# Altium schematic symbol library SCH - MCU - STM32 - ST MICROELECTRONICS STM32F407I(E-G)TX LQFP176.SchLib: 1 symbol
Pins are listed as number, name and electrical type; pins without a type are passive.

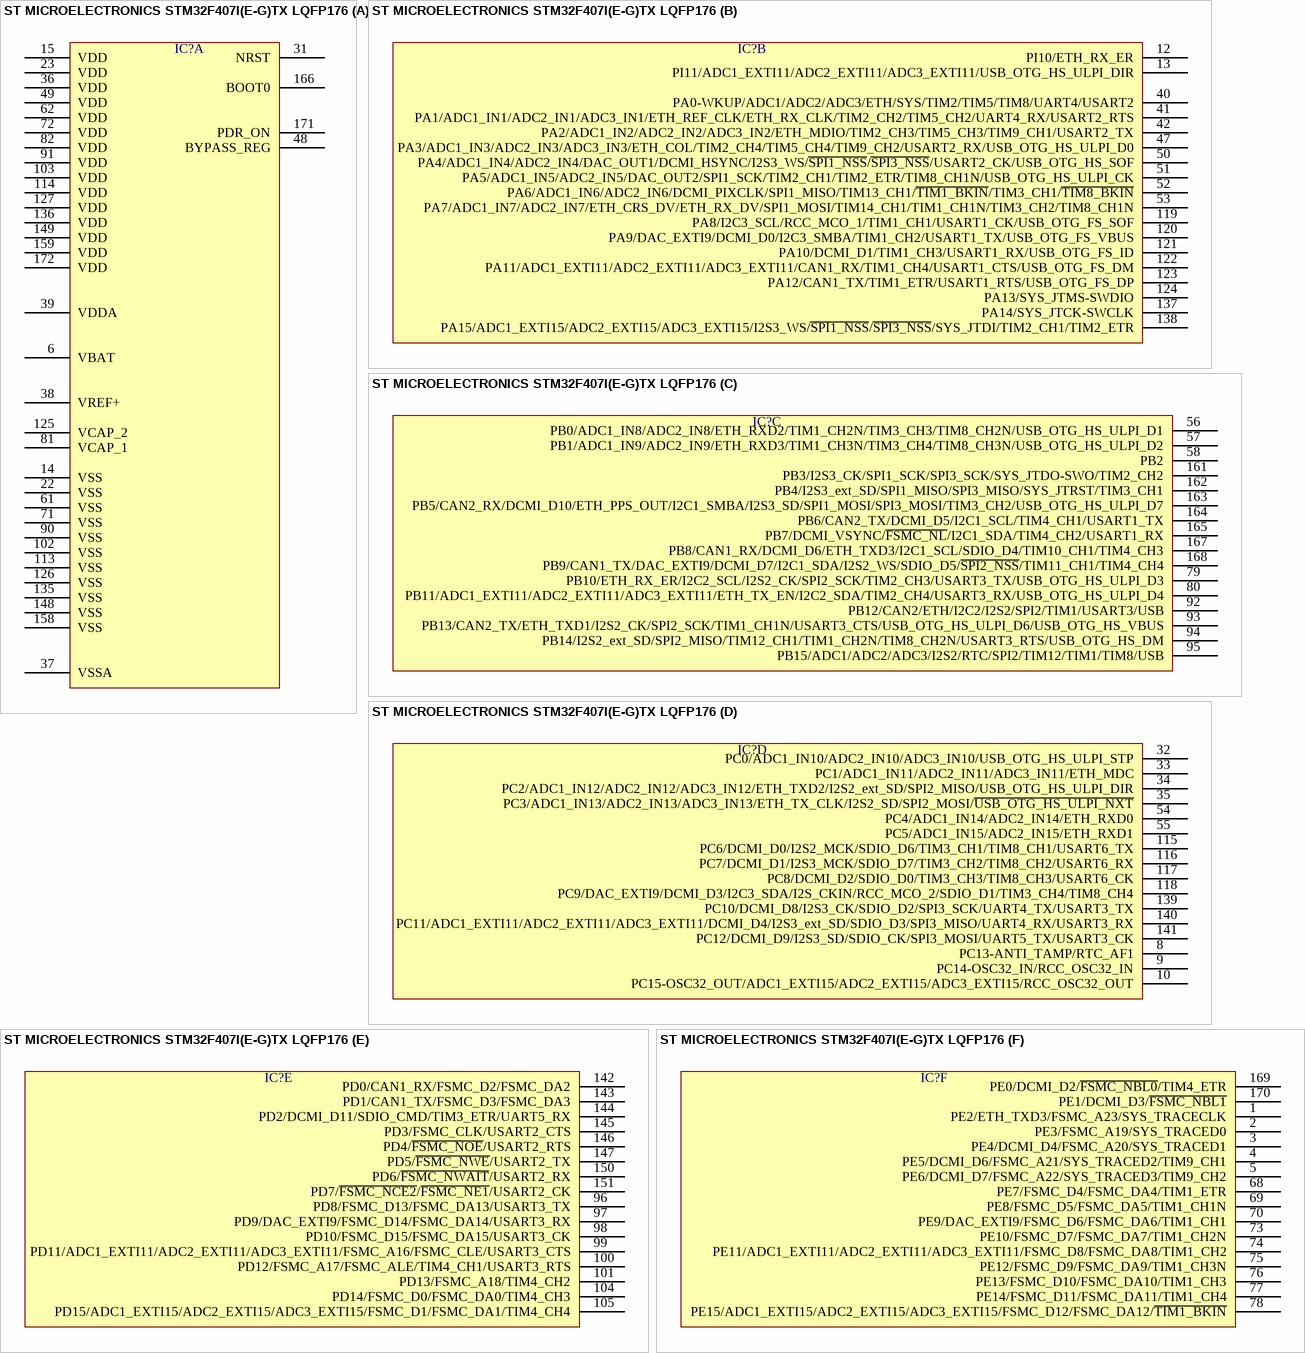
[diagram p0: symbol ST MICROELECTRONICS STM32F407I(E-G)TX LQFP176]

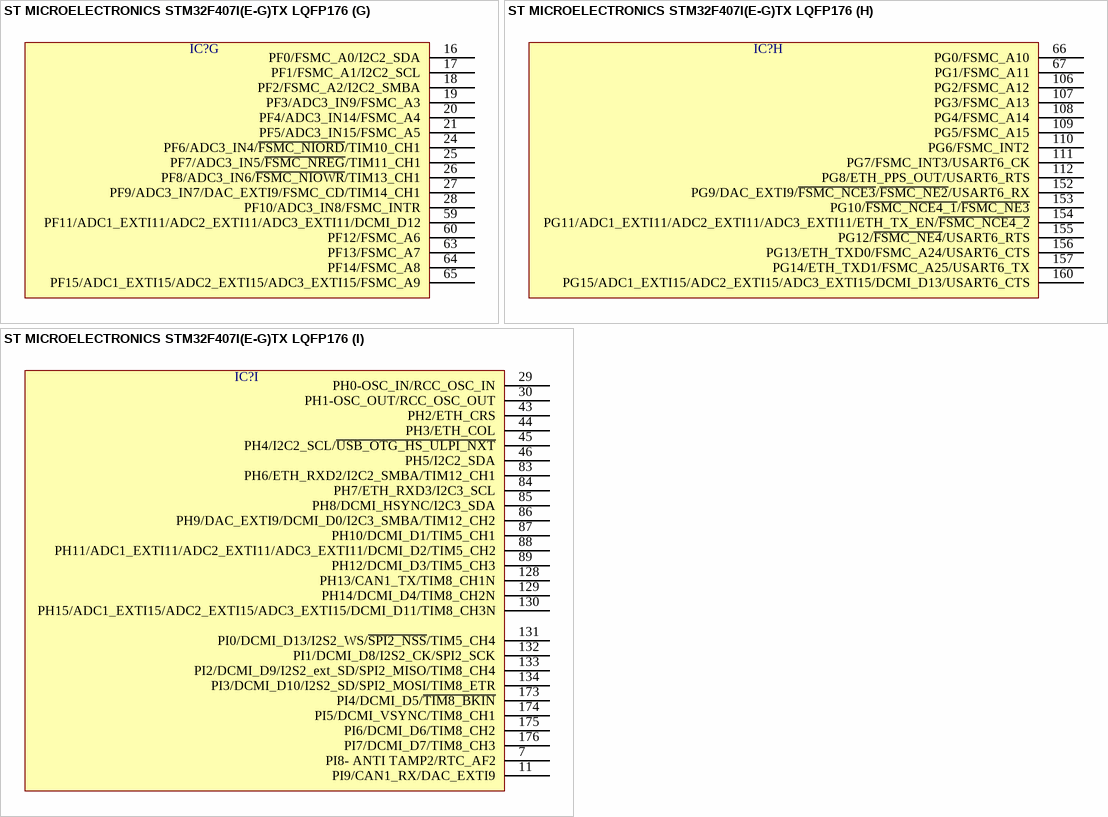
[diagram p1: symbol ST MICROELECTRONICS STM32F407I(E-G)TX LQFP176]

## ST MICROELECTRONICS STM32F407I(E-G)TX LQFP176
designator IC?  (value not drawn)
part A pins: 6 VBAT, 14 VSS, 15 VDD, 22 VSS, 23 VDD, 31 NRST, 36 VDD, 37 VSSA, 38 VREF+, 39 VDDA, 48 BYPASS_REG, 49 VDD, 61 VSS, 62 VDD, 71 VSS, 72 VDD, 81 VCAP_1, 82 VDD, 90 VSS, 91 VDD, 102 VSS, 103 VDD, 113 VSS, 114 VDD, 125 VCAP_2, 126 VSS, 127 VDD, 135 VSS, 136 VDD, 148 VSS, 149 VDD, 158 VSS, 159 VDD, 166 BOOT0, 171 PDR_ON, 172 VDD
part B pins: 12 PI10/ETH_RX_ER, 13 PI11/ADC1_EXTI11/ADC2_EXTI11/ADC3_EXTI11/USB_OTG_HS_ULPI_DIR, 40 PA0-WKUP/ADC1/ADC2/ADC3/ETH/SYS/TIM2/TIM5/TIM8/UART4/USART2, 41 PA1/ADC1_IN1/ADC2_IN1/ADC3_IN1/ETH_REF_CLK/ETH_RX_CLK/TIM2_CH2/TIM5_CH2/UART4_RX/USART2_RTS, 42 PA2/ADC1_IN2/ADC2_IN2/ADC3_IN2/ETH_MDIO/TIM2_CH3/TIM5_CH3/TIM9_CH1/USART2_TX, 47 PA3/ADC1_IN3/ADC2_IN3/ADC3_IN3/ETH_COL/TIM2_CH4/TIM5_CH4/TIM9_CH2/USART2_RX/USB_OTG_HS_ULPI_D0, 50 PA4/ADC1_IN4/ADC2_IN4/DAC_OUT1/DCMI_HSYNC/I2S3_WS/~{SPI1_NSS}/~{SPI3_NSS}/USART2_CK/USB_OTG_HS_SOF, 51 PA5/ADC1_IN5/ADC2_IN5/DAC_OUT2/SPI1_SCK/TIM2_CH1/TIM2_ETR/TIM8_CH1N/USB_OTG_HS_ULPI_CK, 52 PA6/ADC1_IN6/ADC2_IN6/DCMI_PIXCLK/SPI1_MISO/TIM13_CH1/~{TIM1_BKIN}/TIM3_CH1/~{TIM8_BKIN}, 53 PA7/ADC1_IN7/ADC2_IN7/ETH_CRS_DV/ETH_RX_DV/SPI1_MOSI/TIM14_CH1/TIM1_CH1N/TIM3_CH2/TIM8_CH1N, 119 PA8/I2C3_SCL/RCC_MCO_1/TIM1_CH1/USART1_CK/USB_OTG_FS_SOF, 120 PA9/DAC_EXTI9/DCMI_D0/I2C3_SMBA/TIM1_CH2/USART1_TX/USB_OTG_FS_VBUS, 121 PA10/DCMI_D1/TIM1_CH3/USART1_RX/USB_OTG_FS_ID, 122 PA11/ADC1_EXTI11/ADC2_EXTI11/ADC3_EXTI11/CAN1_RX/TIM1_CH4/USART1_CTS/USB_OTG_FS_DM, 123 PA12/CAN1_TX/TIM1_ETR/USART1_RTS/USB_OTG_FS_DP, 124 PA13/SYS_JTMS-SWDIO, 137 PA14/SYS_JTCK-SWCLK, 138 PA15/ADC1_EXTI15/ADC2_EXTI15/ADC3_EXTI15/I2S3_WS/~{SPI1_NSS}/~{SPI3_NSS}/SYS_JTDI/TIM2_CH1/TIM2_ETR
part C pins: 56 PB0/ADC1_IN8/ADC2_IN8/ETH_RXD2/TIM1_CH2N/TIM3_CH3/TIM8_CH2N/USB_OTG_HS_ULPI_D1, 57 PB1/ADC1_IN9/ADC2_IN9/ETH_RXD3/TIM1_CH3N/TIM3_CH4/TIM8_CH3N/USB_OTG_HS_ULPI_D2, 58 PB2, 79 PB10/ETH_RX_ER/I2C2_SCL/I2S2_CK/SPI2_SCK/TIM2_CH3/USART3_TX/USB_OTG_HS_ULPI_D3, 80 PB11/ADC1_EXTI11/ADC2_EXTI11/ADC3_EXTI11/ETH_TX_EN/I2C2_SDA/TIM2_CH4/USART3_RX/USB_OTG_HS_ULPI_D4, 92 PB12/CAN2/ETH/I2C2/I2S2/SPI2/TIM1/USART3/USB, 93 PB13/CAN2_TX/ETH_TXD1/I2S2_CK/SPI2_SCK/TIM1_CH1N/USART3_CTS/USB_OTG_HS_ULPI_D6/USB_OTG_HS_VBUS, 94 PB14/I2S2_ext_SD/SPI2_MISO/TIM12_CH1/TIM1_CH2N/TIM8_CH2N/USART3_RTS/USB_OTG_HS_DM, 95 PB15/ADC1/ADC2/ADC3/I2S2/RTC/SPI2/TIM12/TIM1/TIM8/USB, 161 PB3/I2S3_CK/SPI1_SCK/SPI3_SCK/SYS_JTDO-SWO/TIM2_CH2, 162 PB4/I2S3_ext_SD/SPI1_MISO/SPI3_MISO/SYS_JTRST/TIM3_CH1, 163 PB5/CAN2_RX/DCMI_D10/ETH_PPS_OUT/I2C1_SMBA/I2S3_SD/SPI1_MOSI/SPI3_MOSI/TIM3_CH2/USB_OTG_HS_ULPI_D7, 164 PB6/CAN2_TX/DCMI_D5/I2C1_SCL/TIM4_CH1/USART1_TX, 165 PB7/DCMI_VSYNC/~{FSMC_NL}/I2C1_SDA/TIM4_CH2/USART1_RX, 167 PB8/CAN1_RX/DCMI_D6/ETH_TXD3/I2C1_SCL/SDIO_D4/TIM10_CH1/TIM4_CH3, 168 PB9/CAN1_TX/DAC_EXTI9/DCMI_D7/I2C1_SDA/I2S2_WS/SDIO_D5/~{SPI2_NSS}/TIM11_CH1/TIM4_CH4
part D pins: 8 PC13-ANTI_TAMP/RTC_AF1, 9 PC14-OSC32_IN/RCC_OSC32_IN, 10 PC15-OSC32_OUT/ADC1_EXTI15/ADC2_EXTI15/ADC3_EXTI15/RCC_OSC32_OUT, 32 PC0/ADC1_IN10/ADC2_IN10/ADC3_IN10/USB_OTG_HS_ULPI_STP, 33 PC1/ADC1_IN11/ADC2_IN11/ADC3_IN11/ETH_MDC, 34 PC2/ADC1_IN12/ADC2_IN12/ADC3_IN12/ETH_TXD2/I2S2_ext_SD/SPI2_MISO/USB_OTG_HS_ULPI_DIR, 35 PC3/ADC1_IN13/ADC2_IN13/ADC3_IN13/ETH_TX_CLK/I2S2_SD/SPI2_MOSI/~{USB_OTG_HS_ULPI_NXT}, 54 PC4/ADC1_IN14/ADC2_IN14/ETH_RXD0, 55 PC5/ADC1_IN15/ADC2_IN15/ETH_RXD1, 115 PC6/DCMI_D0/I2S2_MCK/SDIO_D6/TIM3_CH1/TIM8_CH1/USART6_TX, 116 PC7/DCMI_D1/I2S3_MCK/SDIO_D7/TIM3_CH2/TIM8_CH2/USART6_RX, 117 PC8/DCMI_D2/SDIO_D0/TIM3_CH3/TIM8_CH3/USART6_CK, 118 PC9/DAC_EXTI9/DCMI_D3/I2C3_SDA/I2S_CKIN/RCC_MCO_2/SDIO_D1/TIM3_CH4/TIM8_CH4, 139 PC10/DCMI_D8/I2S3_CK/SDIO_D2/SPI3_SCK/UART4_TX/USART3_TX, 140 PC11/ADC1_EXTI11/ADC2_EXTI11/ADC3_EXTI11/DCMI_D4/I2S3_ext_SD/SDIO_D3/SPI3_MISO/UART4_RX/USART3_RX, 141 PC12/DCMI_D9/I2S3_SD/SDIO_CK/SPI3_MOSI/UART5_TX/USART3_CK
part E pins: 96 PD8/FSMC_D13/FSMC_DA13/USART3_TX, 97 PD9/DAC_EXTI9/FSMC_D14/FSMC_DA14/USART3_RX, 98 PD10/FSMC_D15/FSMC_DA15/USART3_CK, 99 PD11/ADC1_EXTI11/ADC2_EXTI11/ADC3_EXTI11/FSMC_A16/FSMC_CLE/USART3_CTS, 100 PD12/FSMC_A17/FSMC_ALE/TIM4_CH1/USART3_RTS, 101 PD13/FSMC_A18/TIM4_CH2, 104 PD14/FSMC_D0/FSMC_DA0/TIM4_CH3, 105 PD15/ADC1_EXTI15/ADC2_EXTI15/ADC3_EXTI15/FSMC_D1/FSMC_DA1/TIM4_CH4, 142 PD0/CAN1_RX/FSMC_D2/FSMC_DA2, 143 PD1/CAN1_TX/FSMC_D3/FSMC_DA3, 144 PD2/DCMI_D11/SDIO_CMD/TIM3_ETR/UART5_RX, 145 PD3/FSMC_CLK/USART2_CTS, 146 PD4/~{FSMC_NOE}/USART2_RTS, 147 PD5/~{FSMC_NWE}/USART2_TX, 150 PD6/~{FSMC_NWAIT}/USART2_RX, 151 PD7/~{FSMC_NCE2}/~{FSMC_NE1}/USART2_CK
part F pins: 1 PE2/ETH_TXD3/FSMC_A23/SYS_TRACECLK, 2 PE3/FSMC_A19/SYS_TRACED0, 3 PE4/DCMI_D4/FSMC_A20/SYS_TRACED1, 4 PE5/DCMI_D6/FSMC_A21/SYS_TRACED2/TIM9_CH1, 5 PE6/DCMI_D7/FSMC_A22/SYS_TRACED3/TIM9_CH2, 68 PE7/FSMC_D4/FSMC_DA4/TIM1_ETR, 69 PE8/FSMC_D5/FSMC_DA5/TIM1_CH1N, 70 PE9/DAC_EXTI9/FSMC_D6/FSMC_DA6/TIM1_CH1, 73 PE10/FSMC_D7/FSMC_DA7/TIM1_CH2N, 74 PE11/ADC1_EXTI11/ADC2_EXTI11/ADC3_EXTI11/FSMC_D8/FSMC_DA8/TIM1_CH2, 75 PE12/FSMC_D9/FSMC_DA9/TIM1_CH3N, 76 PE13/FSMC_D10/FSMC_DA10/TIM1_CH3, 77 PE14/FSMC_D11/FSMC_DA11/TIM1_CH4, 78 PE15/ADC1_EXTI15/ADC2_EXTI15/ADC3_EXTI15/FSMC_D12/FSMC_DA12/~{TIM1_BKIN}, 169 PE0/DCMI_D2/~{FSMC_NBL0}/TIM4_ETR, 170 PE1/DCMI_D3/~{FSMC_NBL1}
part G pins: 16 PF0/FSMC_A0/I2C2_SDA, 17 PF1/FSMC_A1/I2C2_SCL, 18 PF2/FSMC_A2/I2C2_SMBA, 19 PF3/ADC3_IN9/FSMC_A3, 20 PF4/ADC3_IN14/FSMC_A4, 21 PF5/ADC3_IN15/FSMC_A5, 24 PF6/ADC3_IN4/~{FSMC_NIORD}/TIM10_CH1, 25 PF7/ADC3_IN5/~{FSMC_NREG}/TIM11_CH1, 26 PF8/ADC3_IN6/~{FSMC_NIOWR}/TIM13_CH1, 27 PF9/ADC3_IN7/DAC_EXTI9/FSMC_CD/TIM14_CH1, 28 PF10/ADC3_IN8/FSMC_INTR, 59 PF11/ADC1_EXTI11/ADC2_EXTI11/ADC3_EXTI11/DCMI_D12, 60 PF12/FSMC_A6, 63 PF13/FSMC_A7, 64 PF14/FSMC_A8, 65 PF15/ADC1_EXTI15/ADC2_EXTI15/ADC3_EXTI15/FSMC_A9
part H pins: 66 PG0/FSMC_A10, 67 PG1/FSMC_A11, 106 PG2/FSMC_A12, 107 PG3/FSMC_A13, 108 PG4/FSMC_A14, 109 PG5/FSMC_A15, 110 PG6/FSMC_INT2, 111 PG7/FSMC_INT3/USART6_CK, 112 PG8/ETH_PPS_OUT/USART6_RTS, 152 PG9/DAC_EXTI9/~{FSMC_NCE3}/~{FSMC_NE2}/USART6_RX, 153 PG10/~{FSMC_NCE4_1}/~{FSMC_NE3}, 154 PG11/ADC1_EXTI11/ADC2_EXTI11/ADC3_EXTI11/ETH_TX_EN/~{FSMC_NCE4_2}, 155 PG12/~{FSMC_NE4}/USART6_RTS, 156 PG13/ETH_TXD0/FSMC_A24/USART6_CTS, 157 PG14/ETH_TXD1/FSMC_A25/USART6_TX, 160 PG15/ADC1_EXTI15/ADC2_EXTI15/ADC3_EXTI15/DCMI_D13/USART6_CTS
part I pins: 7 PI8- ANTI TAMP2/RTC_AF2, 11 PI9/CAN1_RX/DAC_EXTI9, 29 PH0-OSC_IN/RCC_OSC_IN, 30 PH1-OSC_OUT/RCC_OSC_OUT, 43 PH2/ETH_CRS, 44 PH3/ETH_COL, 45 PH4/I2C2_SCL/~{USB_OTG_HS_ULPI_NXT}, 46 PH5/I2C2_SDA, 83 PH6/ETH_RXD2/I2C2_SMBA/TIM12_CH1, 84 PH7/ETH_RXD3/I2C3_SCL, 85 PH8/DCMI_HSYNC/I2C3_SDA, 86 PH9/DAC_EXTI9/DCMI_D0/I2C3_SMBA/TIM12_CH2, 87 PH10/DCMI_D1/TIM5_CH1, 88 PH11/ADC1_EXTI11/ADC2_EXTI11/ADC3_EXTI11/DCMI_D2/TIM5_CH2, 89 PH12/DCMI_D3/TIM5_CH3, 128 PH13/CAN1_TX/TIM8_CH1N, 129 PH14/DCMI_D4/TIM8_CH2N, 130 PH15/ADC1_EXTI15/ADC2_EXTI15/ADC3_EXTI15/DCMI_D11/TIM8_CH3N, 131 PI0/DCMI_D13/I2S2_WS/~{SPI2_NSS}/TIM5_CH4, 132 PI1/DCMI_D8/I2S2_CK/SPI2_SCK, 133 PI2/DCMI_D9/I2S2_ext_SD/SPI2_MISO/TIM8_CH4, 134 PI3/DCMI_D10/I2S2_SD/SPI2_MOSI/TIM8_ETR, 173 PI4/DCMI_D5/~{TIM8_BKIN}, 174 PI5/DCMI_VSYNC/TIM8_CH1, 175 PI6/DCMI_D6/TIM8_CH2, 176 PI7/DCMI_D7/TIM8_CH3